# EAGLE library part BATT-FUEL-GAUGE_BQ27441 (library FlashPCB_ICs)
BQ27441-G1 - IC FUEL GAUGE LI-ION 1CELL 12SON Technical Specifications: Function: Battery Monitor Battery Chemistry: Lithium Ion I2C Interface Supports low-value external sense resistor (10 Ohm) Component Search: BQ27441-G1 <[FLASHPCB URL]> Datasheet: bq27441-G1 System-Side Impedance Track Fuel Gauge datasheet (Rev. C) <https://www.ti.com/lit/ds/symlink/bq27441-g1.pdf?HQS=dis-dk-null-digikeymode-dsf-pf-null-wwe&ts=1668527457644&ref_url=https%253A%252F%252Fwww.ti.com%252Fgeneral%252Fdocs%252Fsuppproductinfo.tsp%253FdistId%253D10%2526gotoUrl%253Dhttps%253A%252F%252Fwww.ti.com%252Flit%252Fgpn%252Fbq27441-g1>
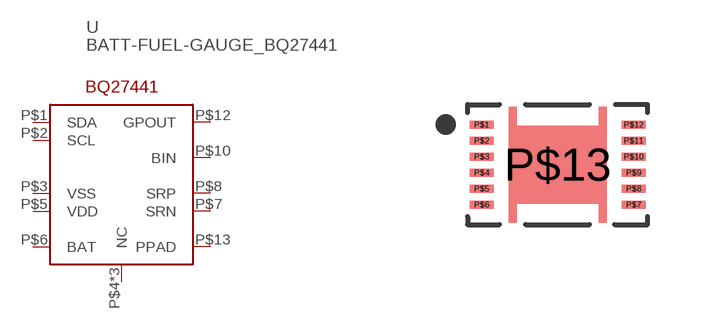
[diagram p23: symbol with the pads of 12-VSON(2.5X4); footprint 12-VSON(2.5X4)]

Designator prefix U

## BATT-FUEL-GAUGE_BQ27441DRZ  [12-VSON(2.5X4)]
P$1  SDA
P$2  SCL
P$3  VSS
P$4  NC
P$5  VDD
P$6  BAT
P$7  SRN
P$8  SRP
P$9  NC
P$10  BIN
P$11  NC
P$12  GPOUT
P$13  PPAD

## Footprint 12-VSON(2.5X4) (pad centres in mm)
smd 0.6 x 0.2: P$1 -1.9,1; P$2 -1.9,0.6; P$3 -1.9,0.2; P$4 -1.9,-0.2; P$5 -1.9,-0.6; P$6 -1.9,-1; P$7 1.9,-1; P$8 1.9,-0.6; P$9 1.9,-0.2; P$10 1.9,0.2; P$11 1.9,0.6; P$12 1.9,1
smd 2.45 x 1.95: P$13 0,0